# EAGLE library part ZMOD4*10 (library Renesas)
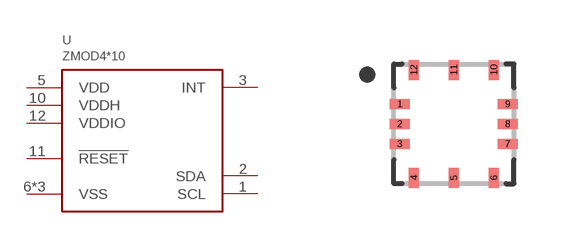
[diagram p4: symbol with the pads of LGA12; footprint LGA12]

Designator prefix U

## ZMOD4410, ZMOD4510  [LGA12]
1  SCL
2  SDA
3  INT
5  VDD
6  VSS
7  VSS
9  VSS
10  VDDH
11  !RESET
12  VDDIO

## Footprint LGA12 (pad centres in mm)
smd 0.5 x 0.25: 1 -1.35,0.5; 2 -1.35,0; 3 -1.35,-0.5; 7 1.35,-0.5; 8 1.35,0; 9 1.35,0.5
smd 0.25 x 0.5: 4 -1,-1.35; 5 0,-1.35; 6 1,-1.35; 10 1,1.35; 11 0,1.35; 12 -1,1.35